# Altium footprint library NXP.PcbLib: 2 footprints
Each footprint in its own frame and in the unit in brackets; x right, y up, seen from the top. Pads: shape width x height; smd on the part's side, far side on the other; paste and mask are expansions set on the pad; w line width, h text height; cw(c..) or ccw(c..) is an arc to the next point about the centre after c.
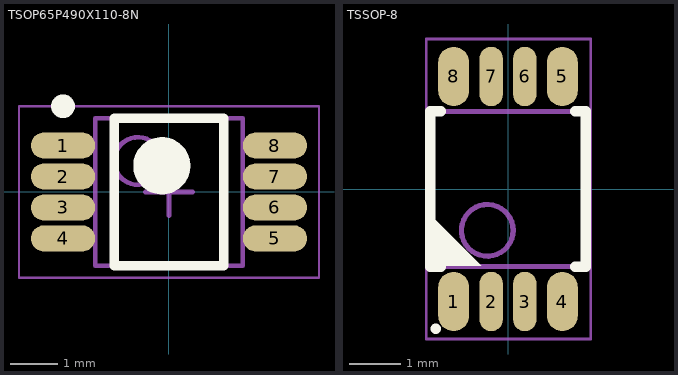
[diagram p0: the footprints below, top view; thin cyan lines are the x and y axes]

## TSOP65P490X110-8N [mm] "TSOP, 8-Leads, Body 3.00x3.00mm, Pitch 0.65mm, IPC Medium Density"
height 1.1
pads (8):
  oval 1.35x0.55 smd: 1(-2.225,0.975) 2(-2.225,0.325) 3(-2.225,-0.325) 4(-2.225,-0.975) 5(2.225,-0.975) 6(2.225,-0.325) 7(2.225,0.325) 8(2.225,0.975)
Top Overlay:
  circle w0.6: c-0.15,0.55 r0.3
  circle w0.25: c-2.225,1.8 r0.125
  lines w0.2: -1.15,-1.55 1.15,-1.55 1.15,1.55 -1.15,1.55 -1.15,-1.55
Mechanical 13:
  circle w0.1: c-0.65,0.65 r0.5
  lines w0.1: -1.55,-1.55 1.55,-1.55 1.55,1.55 -1.55,1.55 -1.55,-1.55
Mechanical 15:
  lines w0.05: -3.15,-1.8 3.15,-1.8 3.15,1.8 -3.15,1.8 -3.15,-1.8
  lines w0.1: -0.5,0 0.5,0 ; 0,-0.5 0,0.5
3D body "TSOP65P490X110-8N.step": height 1.1, standoff 0, extent -2.45,-1.55 2.45,1.55

## TSSOP-8 [mm]
height 1.2
pads (8):
  oval 0.6x1.15 smd mask+0.064: 1(-1.05,-2.175) 4(1.05,-2.175) 5(1.05,2.175) 8(-1.05,2.175)
  oval 0.45x1.15 smd mask+0.064: 2(-0.325,-2.175) 3(0.325,-2.175) 6(0.325,2.175) 7(-0.325,2.175)
Top Overlay:
  circle w0.2: c-1.4,-2.7 r0
  region: -1.487,-0.513 -0.513,-1.487 -1.487,-1.488
  lines w0.2: -1.3,-1.5 -1.5,-1.5 -1.5,1.5 -1.3,1.5 ; 1.3,-1.5 1.5,-1.5 1.5,1.5 1.3,1.5
Mechanical 13:
  circle w0.1: c-0.4,-0.8 r0.5
  lines w0.1: -1.5,-1.5 1.5,-1.5 1.5,1.5 -1.5,1.5 -1.5,-1.5
Mechanical 15:
  lines w0.05: -1.582,-2.9 1.6,-2.9 1.6,2.9 -1.582,2.9 -1.582,-2.9
  text ".Designator" at -1.5,-0.3 h1
3D body "TSOP65P490X110-8N.step": height 1.1, standoff 0, extent -1.55,-2.45 1.55,2.45